# Altium footprint library 给学生的封装库.PcbLib: 31 footprints (part 2 of 2)
Each footprint in its own frame and in the unit in brackets; x right, y up, seen from the top. Pads: shape width x height; smd on the part's side, far side on the other; paste and mask are expansions set on the pad; w line width, h text height; cw(c..) or ccw(c..) is an arc to the next point about the centre after c.
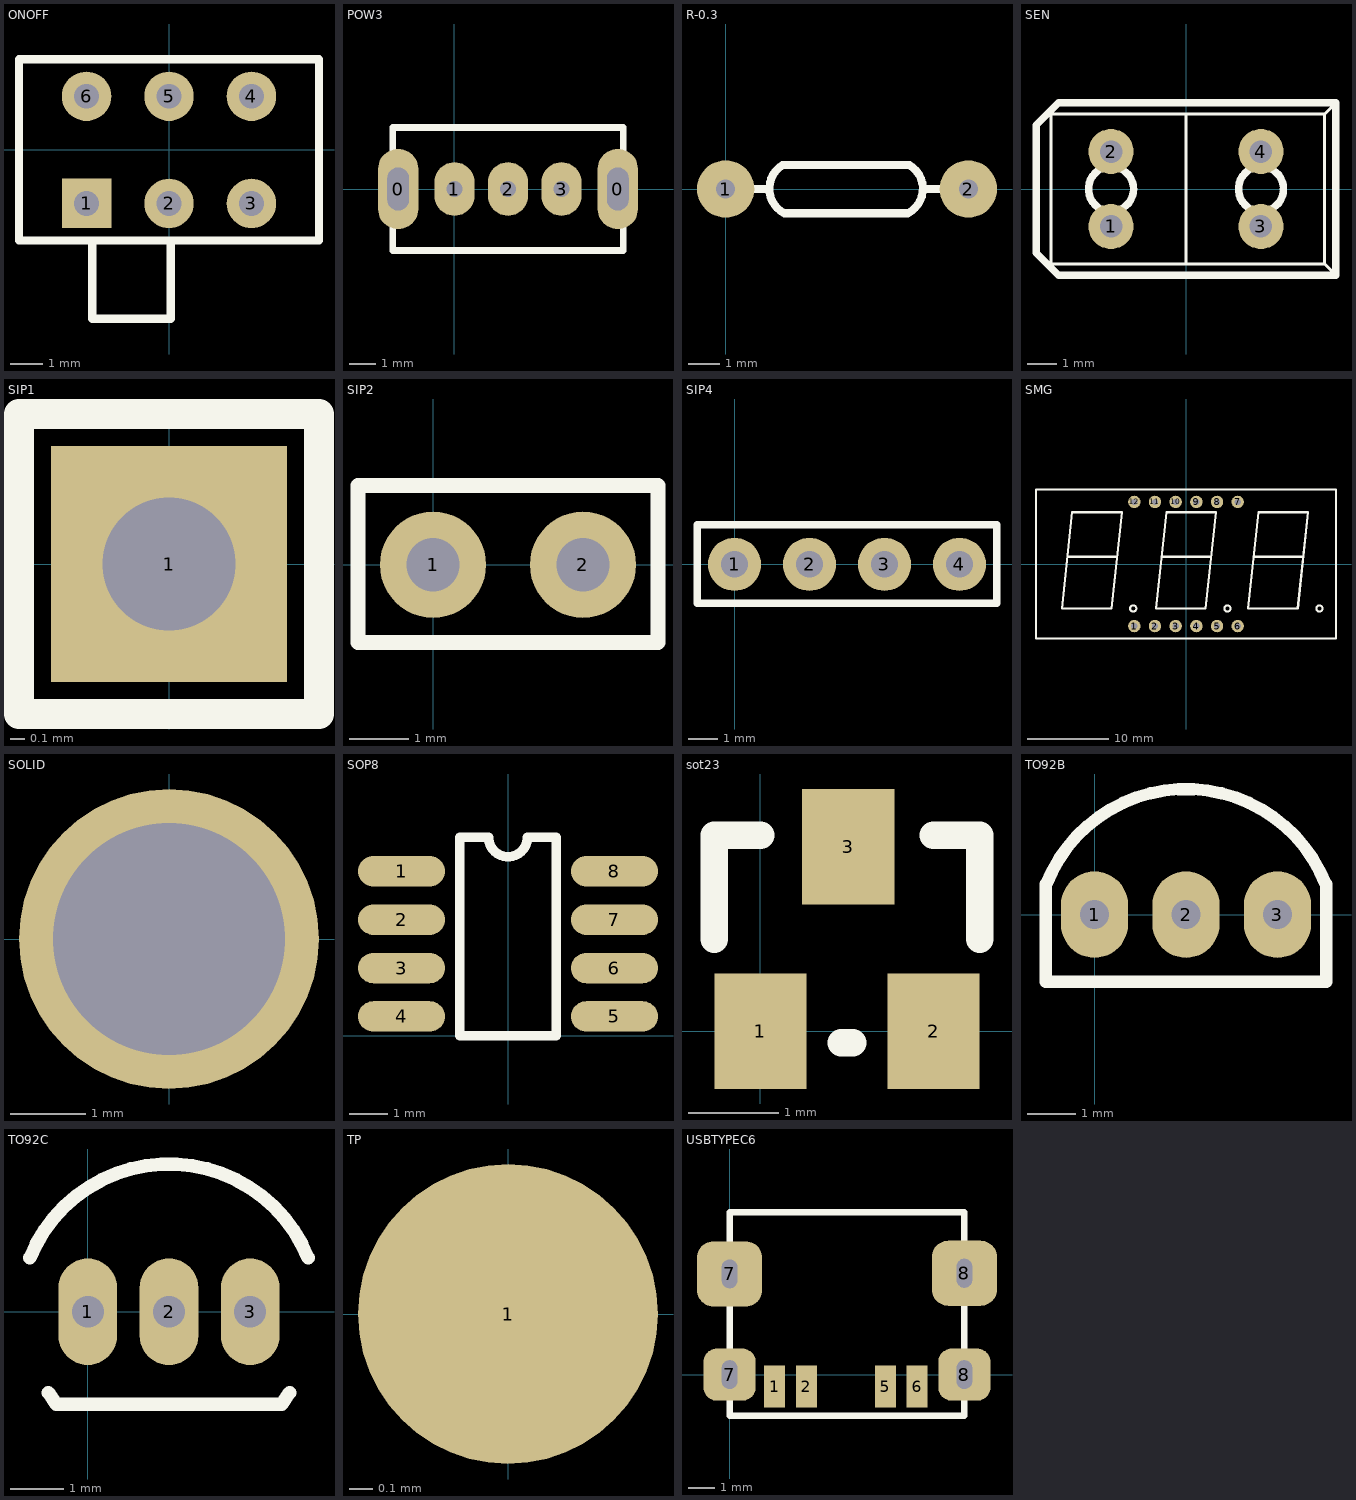
[diagram p1: the footprints below, top view; thin cyan lines are the x and y axes]

## ONOFF [mil]
pads (6):
  rect 60x60 hole 30: 1(-100,-65)
  round 60 hole 30: 2(0,-65) 3(100,-65) 4(100,65) 5(0,65) 6(-100,65)
Top Overlay:
  lines w10: -93,-110 -93,-205 2,-205 2,-110 ; -182,-110 -182,110 182,110 182,-110 -182,-110

## POW3 [mm]
pads (5):
  oval 1.5x3 hole 0.8 slot 1.6 at 90 deg: 0(-2.1,0) 0(6.1,0)
  oval 1.5x2 hole 0.6: 1(0,0) 2(2,0) 3(4,0)
Top Overlay:
  lines w0.254: -2.3,-2.3 -2.3,2.3 6.3,2.3 6.3,-2.3 -2.3,-2.3

## R-0.3 [mm]
pads (2):
  round 1.8 hole 0.6: 1(0,0) 2(7.62,0)
Top Overlay:
  lines w0.254: 0.889,0 1.27,0 ; 6.223,0 6.731,0 ; 1.789,0.751 ccw(c2.233,0.01) 1.847,-0.762 5.715,-0.762 ccw(c5.329,0.01) 5.773,0.751 1.789,0.751

## SEN [mil]
pads (4):
  round 60 hole 30: 1(-100,-50) 2(-100,50) 3(100,-50) 4(100,50)
Top Overlay:
  circle w10: c-100,0 r30
  circle w10: c100,0 r30
  lines w4: 0,-100 0,100 ; 200,-115 185,-100 ; 200,115 185,100 ; 185,-100 -180,-100 -180,100 185,100 ; 185,-100 185,100
  lines w10: -200,-85 -170,-115 200,-115 200,115 -170,115 -200,85 -200,-85

## SIP1 [mm]
height 5.6
pads (1):
  rect 1.6x1.6 hole 0.9: 1(0,0)
Top Overlay:
  lines w0.2: -1.016,-1.016 -1.016,1.016 1.016,1.016 1.016,-1.016 -1.016,-1.016

## SIP2 [mm]
pads (2):
  round 1.8 hole 0.9: 1(0,0) 2(2.54,0)
Top Overlay:
  lines w0.254: -1.27,-1.321 -1.27,1.346 3.81,1.346 3.81,-1.321 -1.27,-1.321

## SIP4 [mm]
height 5.34
pads (4):
  round 1.8 hole 0.9: 1(0,0) 2(2.54,0) 3(5.08,0) 4(7.62,0)
Top Overlay:
  lines w0.254: 8.89,-1.321 -1.27,-1.321 -1.27,1.346 8.89,1.346 8.89,-1.27

## SMG [mil]
pads (12):
  round 60 hole 30: 1(-250,-300) 2(-150,-300) 3(-50,-300) 4(50,-300) 5(150,-300) 6(250,-300) 7(250,300) 8(150,300) 9(50,300) 10(-50,300) 11(-150,300) 12(-250,300)
Top Overlay:
  circle w10: c645,-215 r15
  circle w10: c200,-215 r15
  circle w10: c-255,-215 r15
  lines w10: -570,35 -335,35 ; -115,35 120,35 ; 330,35 565,35 ; -725,-360 725,-360 725,360 -725,360 -725,-360 ; -600,-215 -550,250 -310,250 -360,-215 -600,-215 ; -145,-215 -95,250 145,250 95,-215 -145,-215 ; 300,-215 350,250 590,250 540,-215 300,-215

## SOLID [mm]
pads (1):
  round 4 hole 3.1: ""(0,0)

## SOP8 [mil]
pads (8):
  oval 90x31.5 smd: 1(-110,170) 2(-110,120) 3(-110,70) 4(-110,20) 5(110,20) 6(110,70) 7(110,120) 8(110,170)
Top Overlay:
  lines w10: -50,0 50,0 50,205 20,205 cw(c0,205) -20,205 -50,205 -50,0

## sot23 [mil]
pads (3):
  rect 40x50 smd: 1(0,0) 2(75,0) 3(38,80)
Top Overlay:
  lines w12: -20,40 -20,85 0,85 ; 35,-5 40,-5 ; 75,85 95,85 95,40

## TO92B [mm]
pads (3):
  oval 1.4x1.8 hole 0.6: 1(0,0) 2(1.905,0) 3(3.81,0)
Top Overlay:
  lines w0.254: -1.016,0.635 -1.016,-1.397 4.826,-1.397 4.826,0.635 ; -1.004,0.63 cw(c1.905,-0.508) 4.814,0.63

## TO92C [mm]
height 5.6
pads (3):
  oval 1.1x2 hole 0.6: 1(0,0) 2(1.524,0) 3(3.048,0)
Top Overlay:
  lines w0.254: -1.086,1.012 cw(c1.524,-0.042) 4.134,1.012 ; -0.739,-1.517 -0.593,-1.736 3.641,-1.736 3.787,-1.517

## TP [mm]
pads (1):
  round 1.27 smd: 1(0,0)

## USBTYPEC6 [mm]
pads (8):
  rect 0.8x1.6 smd: 1(1.727,-0.457) 2(2.946,-0.457) 5(5.972,-0.457) 6(7.188,-0.457)
  rrect50% 2x2 hole 0.6 slot 1.1 at 90 deg: 7(0,0) 8(9,0)
  rrect50% 2.5x2.5 hole 0.6 slot 1.1 at 90 deg: 7(0,3.861) 8(9,3.886)
Top Overlay:
  lines w0.254: 0,-1.575 9,-1.575 9,6.223 0,6.223 0,-1.575